# Altium footprint library INDUCTOR.PCBLIB: 32 footprints (part 1 of 2)
Each footprint in its own frame and in the unit in brackets; x right, y up, seen from the top. Pads: shape width x height; smd on the part's side, far side on the other; paste and mask are expansions set on the pad; w line width, h text height; cw(c..) or ccw(c..) is an arc to the next point about the centre after c.
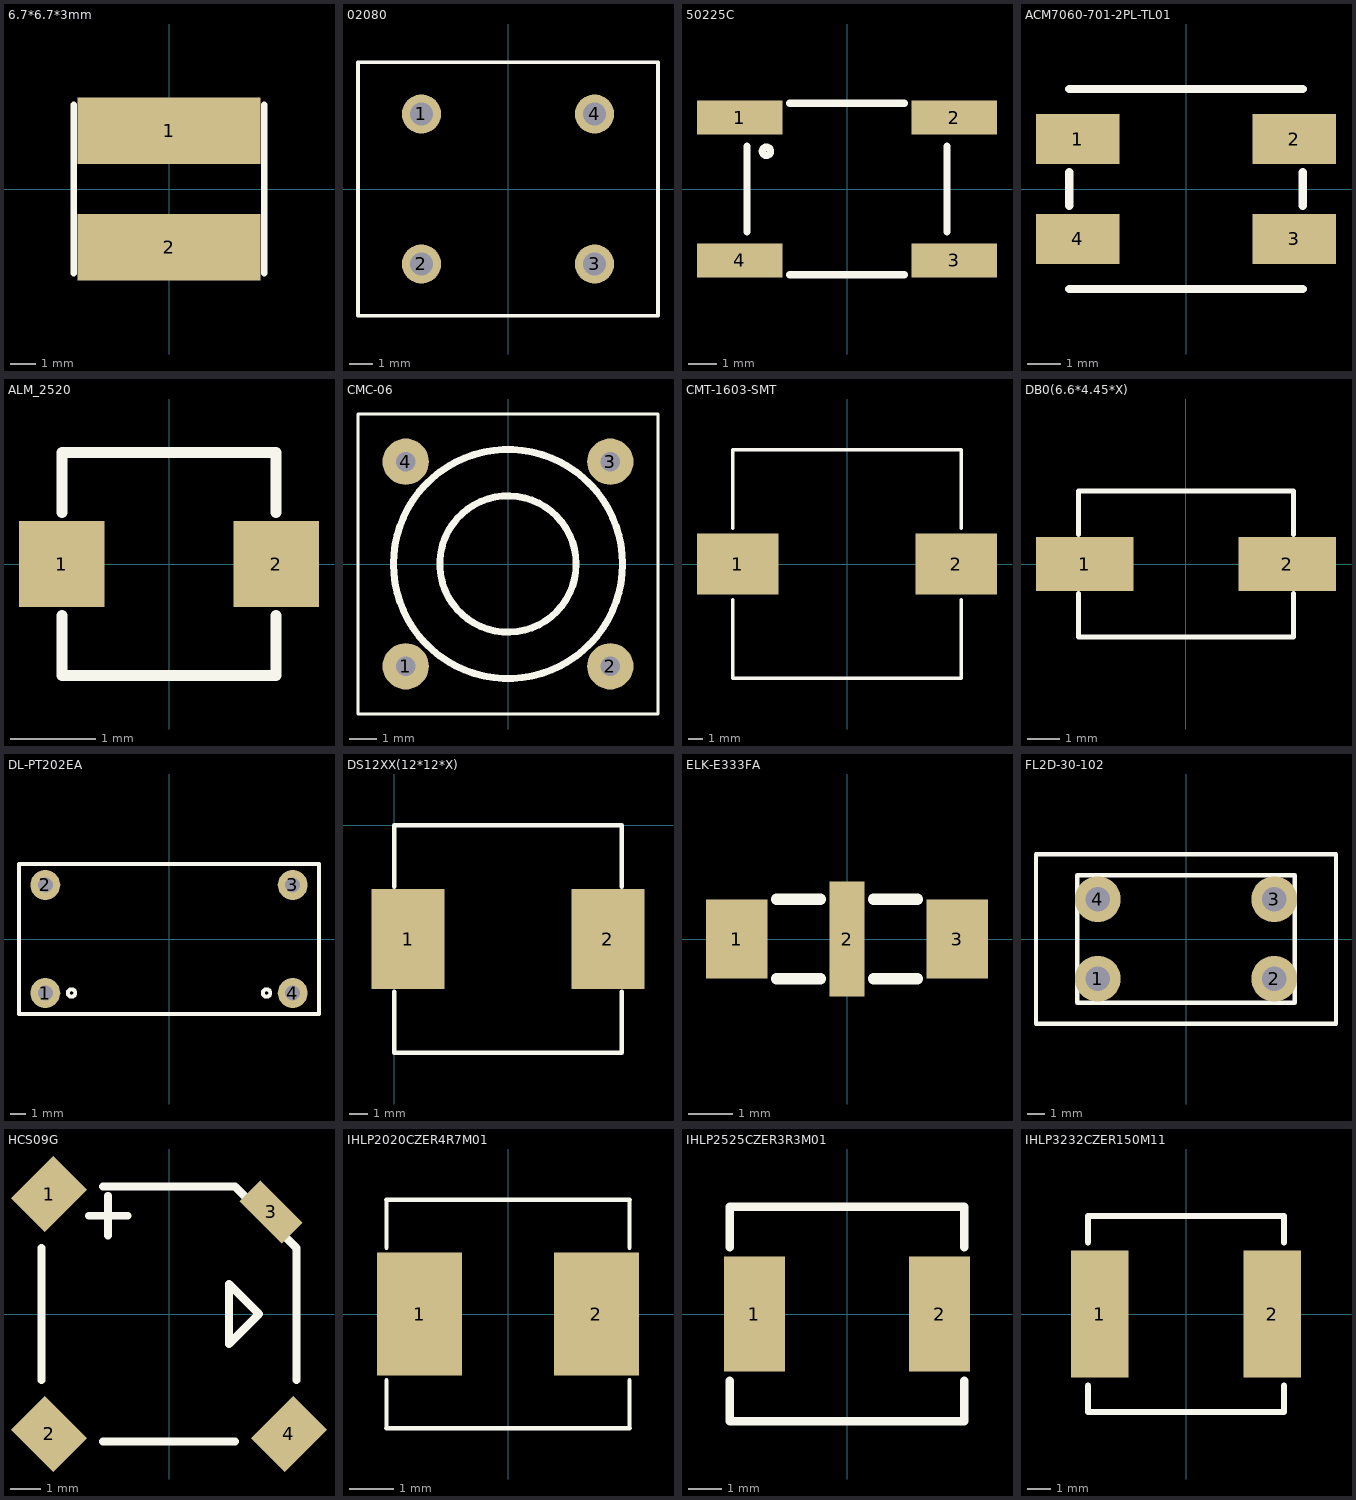
[diagram p0: the footprints below, top view; thin cyan lines are the x and y axes]

## 6.7*6.7*3mm [mm] "ASPI-0602S SERIES INDUCTOR"
height 3
pads (2):
  rect 7.3x2.65 smd: 1(0,2.325) 2(0,-2.325)
Top Overlay:
  lines w0.254: -3.8,-3.35 -3.8,3.35 ; 3.8,-3.35 3.8,3.35

## 02080 [mm] "COMMON MODE FILTER"
height 16
pads (4):
  round 1.7 hole 1: 1(-3.75,3.25) 2(-3.75,-3.25) 3(3.75,-3.25) 4(3.75,3.25)
Top Overlay:
  lines w0.152: -6.5,-5.5 6.5,-5.5 6.5,5.5 -6.5,5.5 -6.5,-5.5

## 50225C [mm] "MuRata 5000 SERIES COMMON MODE FILTER"
height 4.4
pads (4):
  rect 3x1.2 smd: 1(-3.75,2.5) 2(3.75,2.5) 3(3.75,-2.5) 4(-3.75,-2.5)
Top Overlay:
  circle w0.254: c-2.819,1.321 r0.144
  lines w0.254: -3.5,-1.5 -3.5,1.5 ; -2,-3 2,-3 ; -2,3 2,3 ; 3.5,-1.5 3.5,1.5

## ACM7060-701-2PL-TL01 [mm] "Common mode filter"
height 3.5
pads (4):
  rect 2.5x1.5 smd: 1(-3.25,1.5) 2(3.25,1.5) 3(3.25,-1.5) 4(-3.25,-1.5)
Top Overlay:
  lines w0.254: -3.5,-3 3.5,-3 ; -3.5,-0.5 -3.5,0.5 ; -3.5,3 3.5,3 ; 3.5,-0.5 3.5,0.5

## ALM_2520 [mm] "For AOLILU's Inductor"
height 1.8
pads (2):
  rect 1x1 smd: 1(-1.25,0) 2(1.25,0)
Top Overlay:
  lines w0.127: -1.25,-0.6 -1.25,-1.3 1.25,-1.3 1.25,-0.6 ; -1.25,0.6 -1.25,1.3 1.25,1.3 1.25,0.6

## CMC-06 [mm]
height 9.8
pads (4):
  round 1.7 hole 0.7: 1(-3.75,-3.75) 2(3.75,-3.75) 3(3.75,3.75) 4(-3.75,3.75)
Top Overlay:
  circle w0.254: c0,0 r2.5
  circle w0.254: c0,0 r4.2
  lines w0.102: -5.5,-5.5 5.5,-5.5 5.5,5.5 -5.5,5.5 -5.5,-5.5

## CMT-1603-SMT [mm] "SMT BUZZER"
height 2.6
pads (2):
  rect 5.7x4.3 smd: 1(-7.65,0) 2(7.65,0)
Top Overlay:
  lines w0.254: -8,-2.5 -8,-8 8,-8 8,-2.5 ; -8,2.5 -8,8 8,8 8,2.5

## DB0(6.6*4.45*X) [mm]
pads (2):
  rect 3x1.65 smd: 1(-3.11,0) 2(3.11,0)
Top Overlay:
  lines w0.152: -3.3,-0.9 -3.3,-2.25 3.3,-2.25 3.3,-0.9 ; -3.3,0.9 -3.3,2.25 3.3,2.25 3.3,0.9

## DL-PT202EA [mm] "DL-PT202EA电流互感器"
height 18.2
pads (4):
  round 2 hole 1: 1(-8.25,-3.6) 2(-8.25,3.6) 3(8.25,3.6) 4(8.25,-3.6)
Top Overlay:
  circle w0.254: c6.5,-3.6 r0.25
  circle w0.254: c-6.5,-3.6 r0.25
  lines w0.254: -10,-5 -10,5 10,5 10,-5 -10,-5

## DS12XX(12*12*X) [mm] "it is an inductor.magnetic shielded"
pads (2):
  rect 4x5.5 smd: 1(0.75,-6.25) 2(11.75,-6.25)
Top Overlay:
  lines w0.254: 0,-9.144 0,-12.5 12.5,-12.5 12.497,-9.144 ; 0,-3.378 0,0 12.5,0 12.497,-3.378
3D body: height 7, standoff 0, extent 0.051,-12.497 12.573,-0.051

## ELK-E333FA [mm] "T type filter"
height 2.2
pads (3):
  rect 1.4x1.8 smd: 1(-2.5,0) 3(2.5,0)
  rect 0.8x2.6 smd: 2(0,0)
Top Overlay:
  lines w0.254: -1.6,-0.9 -0.6,-0.9 ; -1.6,0.9 -0.6,0.9 ; 0.6,-0.9 1.6,-0.9 ; 0.6,0.9 1.6,0.9

## FL2D-30-102 [mm] "共模滤波器"
height 18
pads (4):
  round 2.6 hole 1.4: 1(-5,-2.25) 2(5,-2.25) 3(5,2.25) 4(-5,2.25)
Top Overlay:
  lines w0.254: -8.5,-4.8 -8.5,4.8 8.5,4.8 8.5,-4.8 -8.5,-4.8 ; -6.15,-3.6 -6.15,3.6 6.15,3.6 6.15,-3.6 -6.15,-3.6

## HCS09G [mm] "贴片蜂鸣器"
height 3.6
pads (4):
  rect 2x1.6 smd rot 45: 1(-4,4) 4(4,-4)
  rect 2x1.6 smd rot 135: 2(-4,-4)
  rect 2x1 smd rot 135: 3(3.4,3.4)
Top Overlay:
  lines w0.254: -4.25,-2.2 -4.25,2.2 ; -2.667,3.277 -1.372,3.277 ; -2.2,-4.25 2.2,-4.25 ; -2.2,4.25 2.2,4.25 4.25,2.2 4.25,-2.2 ; -2.032,2.616 -2.032,3.937 ; 2,-1 3,0 2,1 2,-1

## IHLP2020CZER4R7M01 [mm] "贴片功率电感"
height 3
pads (2):
  rect 1.92x2.79 smd: 1(-2,0) 2(2,0)
Top Overlay:
  lines w0.102: -2.75,-1.5 -2.75,-2.59 2.75,-2.59 2.75,-1.5 ; -2.75,1.5 -2.75,2.59 2.75,2.59 2.75,1.5

## IHLP2525CZER3R3M01 [mm] "功率贴片电感"
height 3
pads (2):
  rect 1.83x3.43 smd: 1(-2.77,0) 2(2.77,0)
Top Overlay:
  lines w0.254: -3.5,-2 -3.5,-3.2 3.5,-3.2 3.5,-2 ; -3.5,2 -3.5,3.2 3.5,3.2 3.5,2

## IHLP3232CZER150M11 [mil] "大功率贴片电感"
height 118.11
pads (2):
  rect 95x210 smd: 1(-142.52,0) 2(142.52,0)
Top Overlay:
  lines w10: -161.42,-118.11 -161.42,-161.42 161.42,-161.42 161.42,-118.11 ; -161.42,118.11 -161.42,161.42 161.42,161.42 161.42,118.11